# Altium integrated library Actel ACT 1.IntLib: 211 symbols (part 4 of 9)
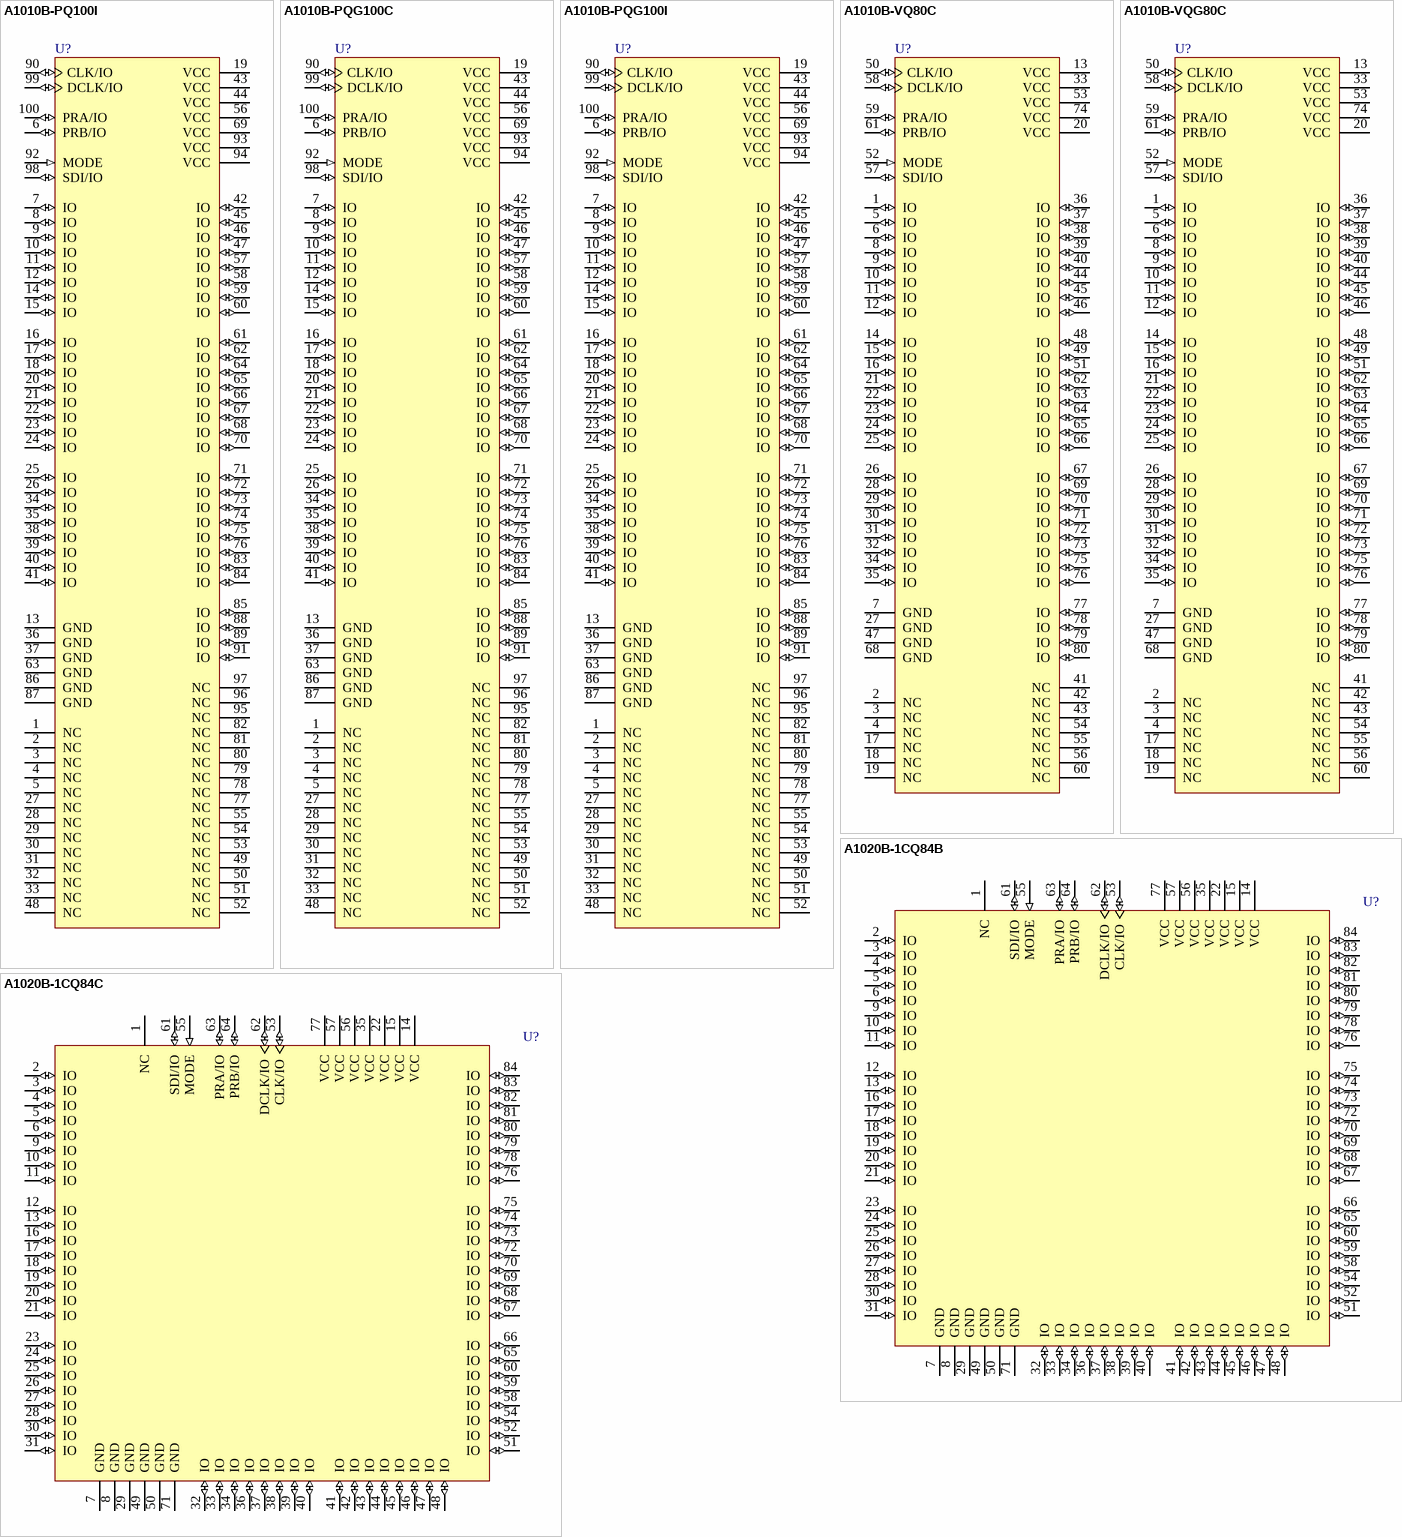
[diagram p35: symbols A1010B-PQ100I to A1020B-1CQ84C]

## A1010B-PQG100C
designator U?
ACT 1 Series 5V FPGA, 57 User I/Os, 100 pin PQFP, Standard Speed Grade, Commercial Grade, Pb-Free; Published: 11-Dec-2009; DatasheetVersion: Apr-1996; PackageVersion: ver11.2, Nov-2009; PackageReference: PQ100; Publisher: Altium Limited; PackageDescription: 100-Pin Plastic Quad Flat Pack Rectangular Package (PQ100); Code_JEDEC: MS-022-GC-1; Code_IPC: QFP65P1720X2320-100; ComponentLink1Description: ACT 1 DataSheet; ComponentLink1URL: http://www.actel.com/documents/ACT1_DS.pdf; ComponentLink2Description: Package Mechanical Drawings; ComponentLink2URL: http://www.actel.com/documents/PckgMechDrwngs.pdf; ComponentLink3Description: ACT Documents; ComponentLink3URL: http://www.actel.com/products/legacy/default.aspx#docs; ComponentLink4Description: Actel.com Home; ComponentLink4URL: http://www.actel.com/
footprint PQ100_N (QFP, 100-Leads, Body 20x14mm, Pitch 0.65mm, IPC Medium Density)
footprint PQ100_L (QFP, 100-Leads, Body 20x14mm, Pitch 0.65mm, IPC High Density)
footprint PQ100_M (QFP, 100-Leads, Body 20x14mm, Pitch 0.65mm, IPC Low Density)
pins: 1 NC, 2 NC, 3 NC, 4 NC, 5 NC, 6 PRB/IO (io), 7 IO (io), 8 IO (io), 9 IO (io), 10 IO (io), 11 IO (io), 12 IO (io), 13 GND (power), 14 IO (io), 15 IO (io), 16 IO (io), 17 IO (io), 18 IO (io), 19 VCC (power), 20 IO (io), 21 IO (io), 22 IO (io), 23 IO (io), 24 IO (io), 25 IO (io), 26 IO (io), 27 NC, 28 NC, 29 NC, 30 NC, 31 NC, 32 NC, 33 NC, 34 IO (io), 35 IO (io), 36 GND (power), 37 GND (power), 38 IO (io), 39 IO (io), 40 IO (io), 41 IO (io), 42 IO (io), 43 VCC (power), 44 VCC (power), 45 IO (io), 46 IO (io), 47 IO (io), 48 NC, 49 NC, 50 NC, 51 NC, 52 NC, 53 NC, 54 NC, 55 NC, 56 VCC (power), 57 IO (io), 58 IO (io), 59 IO (io), 60 IO (io), 61 IO (io), 62 IO (io), 63 GND (power), 64 IO (io), 65 IO (io), 66 IO (io), 67 IO (io), 68 IO (io), 69 VCC (power), 70 IO (io), 71 IO (io), 72 IO (io), 73 IO (io), 74 IO (io), 75 IO (io), 76 IO (io), 77 NC, 78 NC, 79 NC, 80 NC, 81 NC, 82 NC, 83 IO (io), 84 IO (io), 85 IO (io), 86 GND (power), 87 GND (power), 88 IO (io), 89 IO (io), 90 CLK/IO (io), 91 IO (io), 92 MODE (in), 93 VCC (power), 94 VCC (power), 95 NC, 96 NC, 97 NC, 98 SDI/IO (io), 99 DCLK/IO (io), 100 PRA/IO (io)

## A1010B-PQG100I
designator U?
ACT 1 Series 5V FPGA, 57 User I/Os, 100 pin PQFP, Standard Speed Grade, Industrial Grade, Pb-Free; Published: 11-Dec-2009; DatasheetVersion: Apr-1996; PackageVersion: ver11.2, Nov-2009; PackageReference: PQ100; Publisher: Altium Limited; PackageDescription: 100-Pin Plastic Quad Flat Pack Rectangular Package (PQ100); Code_JEDEC: MS-022-GC-1; Code_IPC: QFP65P1720X2320-100; ComponentLink1Description: ACT 1 DataSheet; ComponentLink1URL: http://www.actel.com/documents/ACT1_DS.pdf; ComponentLink2Description: Package Mechanical Drawings; ComponentLink2URL: http://www.actel.com/documents/PckgMechDrwngs.pdf; ComponentLink3Description: ACT Documents; ComponentLink3URL: http://www.actel.com/products/legacy/default.aspx#docs; ComponentLink4Description: Actel.com Home; ComponentLink4URL: http://www.actel.com/
footprint PQ100_N (QFP, 100-Leads, Body 20x14mm, Pitch 0.65mm, IPC Medium Density)
footprint PQ100_L (QFP, 100-Leads, Body 20x14mm, Pitch 0.65mm, IPC High Density)
footprint PQ100_M (QFP, 100-Leads, Body 20x14mm, Pitch 0.65mm, IPC Low Density)
pins: 1 NC, 2 NC, 3 NC, 4 NC, 5 NC, 6 PRB/IO (io), 7 IO (io), 8 IO (io), 9 IO (io), 10 IO (io), 11 IO (io), 12 IO (io), 13 GND (power), 14 IO (io), 15 IO (io), 16 IO (io), 17 IO (io), 18 IO (io), 19 VCC (power), 20 IO (io), 21 IO (io), 22 IO (io), 23 IO (io), 24 IO (io), 25 IO (io), 26 IO (io), 27 NC, 28 NC, 29 NC, 30 NC, 31 NC, 32 NC, 33 NC, 34 IO (io), 35 IO (io), 36 GND (power), 37 GND (power), 38 IO (io), 39 IO (io), 40 IO (io), 41 IO (io), 42 IO (io), 43 VCC (power), 44 VCC (power), 45 IO (io), 46 IO (io), 47 IO (io), 48 NC, 49 NC, 50 NC, 51 NC, 52 NC, 53 NC, 54 NC, 55 NC, 56 VCC (power), 57 IO (io), 58 IO (io), 59 IO (io), 60 IO (io), 61 IO (io), 62 IO (io), 63 GND (power), 64 IO (io), 65 IO (io), 66 IO (io), 67 IO (io), 68 IO (io), 69 VCC (power), 70 IO (io), 71 IO (io), 72 IO (io), 73 IO (io), 74 IO (io), 75 IO (io), 76 IO (io), 77 NC, 78 NC, 79 NC, 80 NC, 81 NC, 82 NC, 83 IO (io), 84 IO (io), 85 IO (io), 86 GND (power), 87 GND (power), 88 IO (io), 89 IO (io), 90 CLK/IO (io), 91 IO (io), 92 MODE (in), 93 VCC (power), 94 VCC (power), 95 NC, 96 NC, 97 NC, 98 SDI/IO (io), 99 DCLK/IO (io), 100 PRA/IO (io)

## A1010B-VQ80C
designator U?
ACT 1 Series 5V FPGA, 57 User I/Os, 80 pin Very Thin QFP, Standard Speed Grade, Commercial Grade; Published: 24-Nov-2000; LatestRevisionDate: 13-Apr-2006; LatestRevisionNote: IPC-7351 Footprint Added.; DatasheetVersion: Apr-1996; PackageVersion: ver11.2, Nov-2009; PackageReference: VQ80; Publisher: Altium Limited; PackageDescription: 80-Pin Plastic Quad Flat Pack (VQ80); Code_JEDEC: MS-026-AEC; ComponentLink1Description: ACT 1 DataSheet; ComponentLink1URL: http://www.actel.com/documents/ACT1_DS.pdf; ComponentLink2Description: Package Mechanical Drawings; ComponentLink2URL: http://www.actel.com/documents/PckgMechDrwngs.pdf; ComponentLink3Description: ACT Documents; ComponentLink3URL: http://www.actel.com/products/legacy/default.aspx#docs; ComponentLink4Description: Actel.com Home; ComponentLink4URL: http://www.actel.com/
footprint VQ80_N (Thin QFP, 80-Leads, Body 14 x 14mm, Pitch 0.65mm, IPC Medium Density)
footprint VQ80_L (Thin QFP, 80-Leads, Body 14 x 14mm, Pitch 0.65mm, IPC High Density)
footprint VQ80_M (Thin QFP, 80-Leads, Body 14 x 14mm, Pitch 0.65mm, IPC Low Density)
pins: 1 IO (io), 2 NC, 3 NC, 4 NC, 5 IO (io), 6 IO (io), 7 GND (power), 8 IO (io), 9 IO (io), 10 IO (io), 11 IO (io), 12 IO (io), 13 VCC (power), 14 IO (io), 15 IO (io), 16 IO (io), 17 NC, 18 NC, 19 NC, 20 VCC (power), 21 IO (io), 22 IO (io), 23 IO (io), 24 IO (io), 25 IO (io), 26 IO (io), 27 GND (power), 28 IO (io), 29 IO (io), 30 IO (io), 31 IO (io), 32 IO (io), 33 VCC (power), 34 IO (io), 35 IO (io), 36 IO (io), 37 IO (io), 38 IO (io), 39 IO (io), 40 IO (io), 41 NC, 42 NC, 43 NC, 44 IO (io), 45 IO (io), 46 IO (io), 47 GND (power), 48 IO (io), 49 IO (io), 50 CLK/IO (io), 51 IO (io), 52 MODE (in), 53 VCC (power), 54 NC, 55 NC, 56 NC, 57 SDI/IO (io), 58 DCLK/IO (io), 59 PRA/IO (io), 60 NC, 61 PRB/IO (io), 62 IO (io), 63 IO (io), 64 IO (io), 65 IO (io), 66 IO (io), 67 IO (io), 68 GND (power), 69 IO (io), 70 IO (io), 71 IO (io), 72 IO (io), 73 IO (io), 74 VCC (power), 75 IO (io), 76 IO (io), 77 IO (io), 78 IO (io), 79 IO (io), 80 IO (io)

## A1010B-VQG80C
designator U?
ACT 1 Series 5V FPGA, 57 User I/Os, 80 pin Very Thin QFP, Standard Speed Grade, Commercial Grade, Pb-Free; Published: 11-Dec-2009; DatasheetVersion: Apr-1996; PackageVersion: ver11.2, Nov-2009; PackageReference: VQ80; Publisher: Altium Limited; PackageDescription: 80-Pin Plastic Quad Flat Pack (VQ80); Code_JEDEC: MS-026-AEC; ComponentLink1Description: ACT 1 DataSheet; ComponentLink1URL: http://www.actel.com/documents/ACT1_DS.pdf; ComponentLink2Description: Package Mechanical Drawings; ComponentLink2URL: http://www.actel.com/documents/PckgMechDrwngs.pdf; ComponentLink3Description: ACT Documents; ComponentLink3URL: http://www.actel.com/products/legacy/default.aspx#docs; ComponentLink4Description: Actel.com Home; ComponentLink4URL: http://www.actel.com/
footprint VQ80_N (Thin QFP, 80-Leads, Body 14 x 14mm, Pitch 0.65mm, IPC Medium Density)
footprint VQ80_L (Thin QFP, 80-Leads, Body 14 x 14mm, Pitch 0.65mm, IPC High Density)
footprint VQ80_M (Thin QFP, 80-Leads, Body 14 x 14mm, Pitch 0.65mm, IPC Low Density)
pins: 1 IO (io), 2 NC, 3 NC, 4 NC, 5 IO (io), 6 IO (io), 7 GND (power), 8 IO (io), 9 IO (io), 10 IO (io), 11 IO (io), 12 IO (io), 13 VCC (power), 14 IO (io), 15 IO (io), 16 IO (io), 17 NC, 18 NC, 19 NC, 20 VCC (power), 21 IO (io), 22 IO (io), 23 IO (io), 24 IO (io), 25 IO (io), 26 IO (io), 27 GND (power), 28 IO (io), 29 IO (io), 30 IO (io), 31 IO (io), 32 IO (io), 33 VCC (power), 34 IO (io), 35 IO (io), 36 IO (io), 37 IO (io), 38 IO (io), 39 IO (io), 40 IO (io), 41 NC, 42 NC, 43 NC, 44 IO (io), 45 IO (io), 46 IO (io), 47 GND (power), 48 IO (io), 49 IO (io), 50 CLK/IO (io), 51 IO (io), 52 MODE (in), 53 VCC (power), 54 NC, 55 NC, 56 NC, 57 SDI/IO (io), 58 DCLK/IO (io), 59 PRA/IO (io), 60 NC, 61 PRB/IO (io), 62 IO (io), 63 IO (io), 64 IO (io), 65 IO (io), 66 IO (io), 67 IO (io), 68 GND (power), 69 IO (io), 70 IO (io), 71 IO (io), 72 IO (io), 73 IO (io), 74 VCC (power), 75 IO (io), 76 IO (io), 77 IO (io), 78 IO (io), 79 IO (io), 80 IO (io)

## A1020B-1CQ84B
designator U?
ACT 1 Series 5V FPGA, 69 User I/Os, 84 pin CQFP, Speed Grade 1, MIL-STD-883; Published: 24-Nov-2000; LatestRevisionDate: 13-Apr-2006; LatestRevisionNote: IPC-7351 Footprint Added.; DatasheetVersion: v3.0, Jan-2000; PackageVersion: ver11.2, Nov-2009; PackageReference: CQ84; Publisher: Altium Limited; PackageDescription: 84-Pin Ceramic Quad Flat Pack (CQFP); ComponentLink1Description: HiRel ACT 1 DataSheet; ComponentLink1URL: http://www.actel.com/documents/HiRel_DS.pdf; ComponentLink2Description: Package Mechanical Drawings; ComponentLink2URL: http://www.actel.com/documents/PckgMechDrwngs.pdf; ComponentLink3Description: ACT Documents; ComponentLink3URL: http://www.actel.com/products/legacy/default.aspx#docs; ComponentLink4Description: Actel.com Home; ComponentLink4URL: http://www.actel.com/
footprint CQ84_N (CQFP, 84-Leads, Body 16.5x16.5mm; Pitch 0.635mm, Gullwing Leadform, IPC Medium Density)
footprint CQ84_L (CQFP, 84-Leads, Body 16.5x16.5mm; Pitch 0.635mm, Gullwing Leadform, IPC High Density)
footprint CQ84_M (CQFP, 84-Leads, Body 16.5x16.5mm; Pitch 0.635mm, Gullwing Leadform, IPC Low Density)
pins: 1 NC, 2 IO (io), 3 IO (io), 4 IO (io), 5 IO (io), 6 IO (io), 7 GND (power), 8 GND (power), 9 IO (io), 10 IO (io), 11 IO (io), 12 IO (io), 13 IO (io), 14 VCC (power), 15 VCC (power), 16 IO (io), 17 IO (io), 18 IO (io), 19 IO (io), 20 IO (io), 21 IO (io), 22 VCC (power), 23 IO (io), 24 IO (io), 25 IO (io), 26 IO (io), 27 IO (io), 28 IO (io), 29 GND (power), 30 IO (io), 31 IO (io), 32 IO (io), 33 IO (io), 34 IO (io), 35 VCC (power), 36 IO (io), 37 IO (io), 38 IO (io), 39 IO (io), 40 IO (io), 41 IO (io), 42 IO (io), 43 IO (io), 44 IO (io), 45 IO (io), 46 IO (io), 47 IO (io), 48 IO (io), 49 GND (power), 50 GND (power), 51 IO (io), 52 IO (io), 53 CLK/IO (io), 54 IO (io), 55 MODE (in), 56 VCC (power), 57 VCC (power), 58 IO (io), 59 IO (io), 60 IO (io), 61 SDI/IO (io), 62 DCLK/IO (io), 63 PRA/IO (io), 64 PRB/IO (io), 65 IO (io), 66 IO (io), 67 IO (io), 68 IO (io), 69 IO (io), 70 IO (io), 71 GND (power), 72 IO (io), 73 IO (io), 74 IO (io), 75 IO (io), 76 IO (io), 77 VCC (power), 78 IO (io), 79 IO (io), 80 IO (io), 81 IO (io), 82 IO (io), 83 IO (io), 84 IO (io)

## A1020B-1CQ84C
designator U?
ACT 1 Series 5V FPGA, 69 User I/Os, 84 pin CQFP, Speed Grade 1, Commercial Grade; Published: 24-Nov-2000; LatestRevisionDate: 13-Apr-2006; LatestRevisionNote: IPC-7351 Footprint Added.; DatasheetVersion: v3.0, Jan-2000; PackageVersion: ver11.2, Nov-2009; PackageReference: CQ84; Publisher: Altium Limited; PackageDescription: 84-Pin Ceramic Quad Flat Pack (CQFP); ComponentLink1Description: HiRel ACT 1 DataSheet; ComponentLink1URL: http://www.actel.com/documents/HiRel_DS.pdf; ComponentLink2Description: Package Mechanical Drawings; ComponentLink2URL: http://www.actel.com/documents/PckgMechDrwngs.pdf; ComponentLink3Description: ACT Documents; ComponentLink3URL: http://www.actel.com/products/legacy/default.aspx#docs; ComponentLink4Description: Actel.com Home; ComponentLink4URL: http://www.actel.com/
footprint CQ84_N (CQFP, 84-Leads, Body 16.5x16.5mm; Pitch 0.635mm, Gullwing Leadform, IPC Medium Density)
footprint CQ84_L (CQFP, 84-Leads, Body 16.5x16.5mm; Pitch 0.635mm, Gullwing Leadform, IPC High Density)
footprint CQ84_M (CQFP, 84-Leads, Body 16.5x16.5mm; Pitch 0.635mm, Gullwing Leadform, IPC Low Density)
pins: 1 NC, 2 IO (io), 3 IO (io), 4 IO (io), 5 IO (io), 6 IO (io), 7 GND (power), 8 GND (power), 9 IO (io), 10 IO (io), 11 IO (io), 12 IO (io), 13 IO (io), 14 VCC (power), 15 VCC (power), 16 IO (io), 17 IO (io), 18 IO (io), 19 IO (io), 20 IO (io), 21 IO (io), 22 VCC (power), 23 IO (io), 24 IO (io), 25 IO (io), 26 IO (io), 27 IO (io), 28 IO (io), 29 GND (power), 30 IO (io), 31 IO (io), 32 IO (io), 33 IO (io), 34 IO (io), 35 VCC (power), 36 IO (io), 37 IO (io), 38 IO (io), 39 IO (io), 40 IO (io), 41 IO (io), 42 IO (io), 43 IO (io), 44 IO (io), 45 IO (io), 46 IO (io), 47 IO (io), 48 IO (io), 49 GND (power), 50 GND (power), 51 IO (io), 52 IO (io), 53 CLK/IO (io), 54 IO (io), 55 MODE (in), 56 VCC (power), 57 VCC (power), 58 IO (io), 59 IO (io), 60 IO (io), 61 SDI/IO (io), 62 DCLK/IO (io), 63 PRA/IO (io), 64 PRB/IO (io), 65 IO (io), 66 IO (io), 67 IO (io), 68 IO (io), 69 IO (io), 70 IO (io), 71 GND (power), 72 IO (io), 73 IO (io), 74 IO (io), 75 IO (io), 76 IO (io), 77 VCC (power), 78 IO (io), 79 IO (io), 80 IO (io), 81 IO (io), 82 IO (io), 83 IO (io), 84 IO (io)

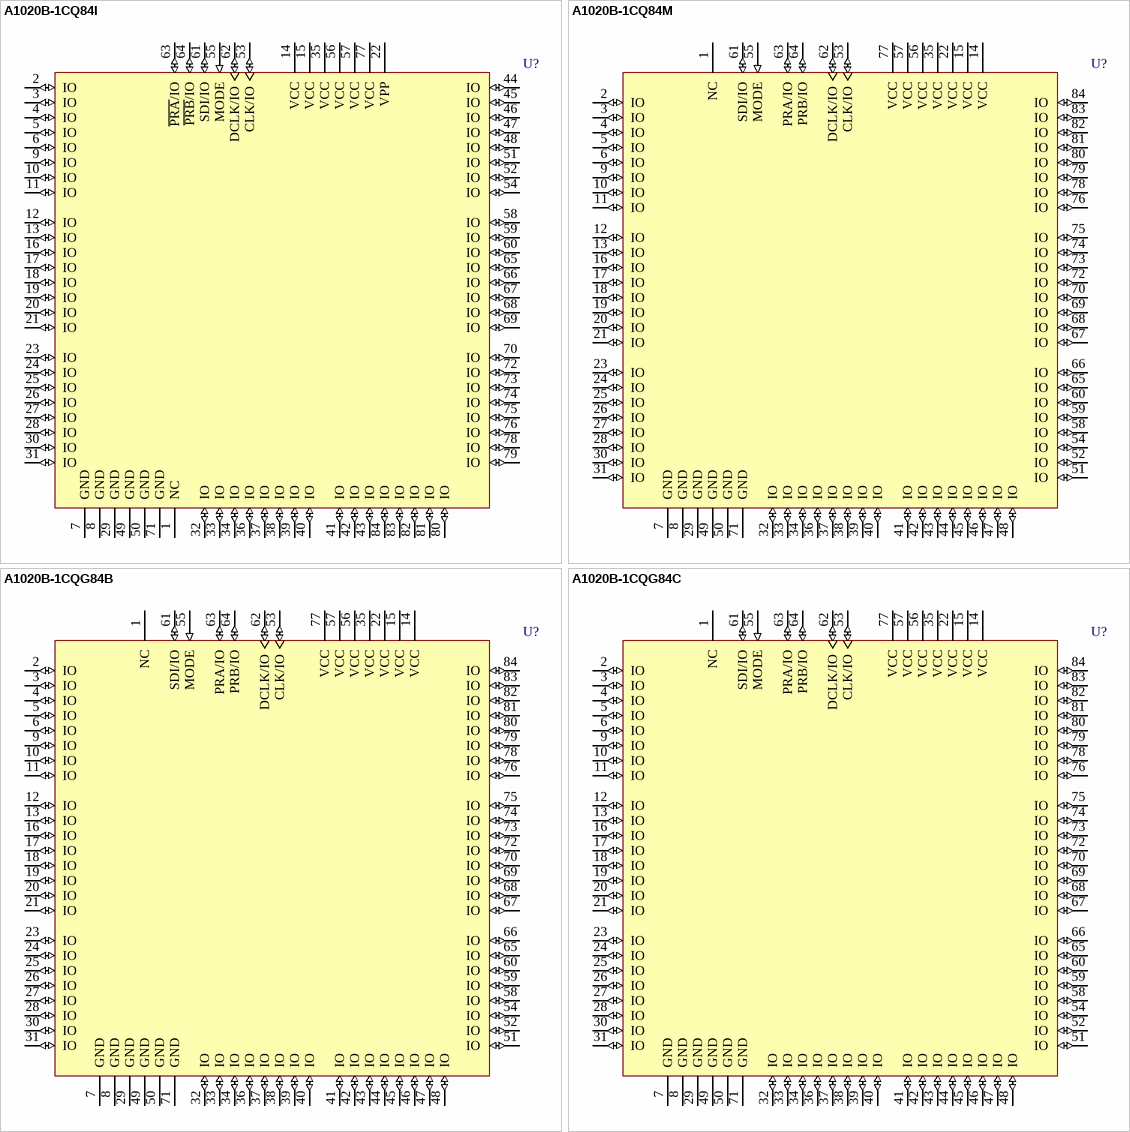
[diagram p12: symbols A1020B-1CQ84I to A1020B-1CQG84C]

## A1020B-1CQ84I
designator U?
ACT 1 Series 5V FPGA, 69 User I/Os, 84 pin CQFP, Speed Grade 1, Industrial Grade; ComponentAvailability: Unknown, check status with vendor.; Published: 24-Nov-2000; LatestRevisionDate: 13-Apr-2006; LatestRevisionNote: IPC-7351 Footprint Added.; DatasheetVersion: 1991; PackageVersion: ver11.2, Nov-2009; PackageReference: CQ84; Publisher: Altium Limited; PackageDescription: 84-Pin Ceramic Quad Flat Pack (CQFP); ComponentLink1Description: Package Mechanical Drawings; ComponentLink1URL: http://www.actel.com/documents/PckgMechDrwngs.pdf; ComponentLink2Description: ACT Documents; ComponentLink2URL: http://www.actel.com/products/legacy/default.aspx#docs; ComponentLink3Description: Actel.com Home; ComponentLink3URL: http://www.actel.com/
footprint CQ84_N (CQFP, 84-Leads, Body 16.5x16.5mm; Pitch 0.635mm, Gullwing Leadform, IPC Medium Density)
footprint CQ84_L (CQFP, 84-Leads, Body 16.5x16.5mm; Pitch 0.635mm, Gullwing Leadform, IPC High Density)
footprint CQ84_M (CQFP, 84-Leads, Body 16.5x16.5mm; Pitch 0.635mm, Gullwing Leadform, IPC Low Density)
pins: 1 NC, 2 IO (io), 3 IO (io), 4 IO (io), 5 IO (io), 6 IO (io), 7 GND (power), 8 GND (power), 9 IO (io), 10 IO (io), 11 IO (io), 12 IO (io), 13 IO (io), 14 VCC (power), 15 VCC (power), 16 IO (io), 17 IO (io), 18 IO (io), 19 IO (io), 20 IO (io), 21 IO (io), 22 VPP (power), 23 IO (io), 24 IO (io), 25 IO (io), 26 IO (io), 27 IO (io), 28 IO (io), 29 GND (power), 30 IO (io), 31 IO (io), 32 IO (io), 33 IO (io), 34 IO (io), 35 VCC (power), 36 IO (io), 37 IO (io), 38 IO (io), 39 IO (io), 40 IO (io), 41 IO (io), 42 IO (io), 43 IO (io), 44 IO (io), 45 IO (io), 46 IO (io), 47 IO (io), 48 IO (io), 49 GND (power), 50 GND (power), 51 IO (io), 52 IO (io), 53 CLK/IO (io), 54 IO (io), 55 MODE (in), 56 VCC (power), 57 VCC (power), 58 IO (io), 59 IO (io), 60 IO (io), 61 SDI/IO (io), 62 DCLK/IO (io), 63 ~{PRA}/IO (io), 64 ~{PRB}/IO (io), 65 IO (io), 66 IO (io), 67 IO (io), 68 IO (io), 69 IO (io), 70 IO (io), 71 GND (power), 72 IO (io), 73 IO (io), 74 IO (io), 75 IO (io), 76 IO (io), 77 VCC (power), 78 IO (io), 79 IO (io), 80 IO (io), 81 IO (io), 82 IO (io), 83 IO (io), 84 IO (io)

## A1020B-1CQ84M
designator U?
ACT 1 Series 5V FPGA, 69 User I/Os, 84 pin CQFP, Speed Grade 1, Military Grade; Published: 24-Nov-2000; LatestRevisionDate: 13-Apr-2006; LatestRevisionNote: IPC-7351 Footprint Added.; DatasheetVersion: v3.0, Jan-2000; PackageVersion: ver11.2, Nov-2009; PackageReference: CQ84; Publisher: Altium Limited; PackageDescription: 84-Pin Ceramic Quad Flat Pack (CQFP); ComponentLink1Description: HiRel ACT 1 DataSheet; ComponentLink1URL: http://www.actel.com/documents/HiRel_DS.pdf; ComponentLink2Description: Package Mechanical Drawings; ComponentLink2URL: http://www.actel.com/documents/PckgMechDrwngs.pdf; ComponentLink3Description: ACT Documents; ComponentLink3URL: http://www.actel.com/products/legacy/default.aspx#docs; ComponentLink4Description: Actel.com Home; ComponentLink4URL: http://www.actel.com/
footprint CQ84_N (CQFP, 84-Leads, Body 16.5x16.5mm; Pitch 0.635mm, Gullwing Leadform, IPC Medium Density)
footprint CQ84_L (CQFP, 84-Leads, Body 16.5x16.5mm; Pitch 0.635mm, Gullwing Leadform, IPC High Density)
footprint CQ84_M (CQFP, 84-Leads, Body 16.5x16.5mm; Pitch 0.635mm, Gullwing Leadform, IPC Low Density)
pins: 1 NC, 2 IO (io), 3 IO (io), 4 IO (io), 5 IO (io), 6 IO (io), 7 GND (power), 8 GND (power), 9 IO (io), 10 IO (io), 11 IO (io), 12 IO (io), 13 IO (io), 14 VCC (power), 15 VCC (power), 16 IO (io), 17 IO (io), 18 IO (io), 19 IO (io), 20 IO (io), 21 IO (io), 22 VCC (power), 23 IO (io), 24 IO (io), 25 IO (io), 26 IO (io), 27 IO (io), 28 IO (io), 29 GND (power), 30 IO (io), 31 IO (io), 32 IO (io), 33 IO (io), 34 IO (io), 35 VCC (power), 36 IO (io), 37 IO (io), 38 IO (io), 39 IO (io), 40 IO (io), 41 IO (io), 42 IO (io), 43 IO (io), 44 IO (io), 45 IO (io), 46 IO (io), 47 IO (io), 48 IO (io), 49 GND (power), 50 GND (power), 51 IO (io), 52 IO (io), 53 CLK/IO (io), 54 IO (io), 55 MODE (in), 56 VCC (power), 57 VCC (power), 58 IO (io), 59 IO (io), 60 IO (io), 61 SDI/IO (io), 62 DCLK/IO (io), 63 PRA/IO (io), 64 PRB/IO (io), 65 IO (io), 66 IO (io), 67 IO (io), 68 IO (io), 69 IO (io), 70 IO (io), 71 GND (power), 72 IO (io), 73 IO (io), 74 IO (io), 75 IO (io), 76 IO (io), 77 VCC (power), 78 IO (io), 79 IO (io), 80 IO (io), 81 IO (io), 82 IO (io), 83 IO (io), 84 IO (io)

## A1020B-1CQG84B
designator U?
ACT 1 Series 5V FPGA, 69 User I/Os, 84 pin CQFP, Speed Grade 1, MIL-STD-883, Pb-Free; Published: 11-Dec-2009; DatasheetVersion: v3.0, Jan-2000; PackageVersion: ver11.2, Nov-2009; PackageReference: CQ84; Publisher: Altium Limited; PackageDescription: 84-Pin Ceramic Quad Flat Pack (CQFP); ComponentLink1Description: HiRel ACT 1 DataSheet; ComponentLink1URL: http://www.actel.com/documents/HiRel_DS.pdf; ComponentLink2Description: Package Mechanical Drawings; ComponentLink2URL: http://www.actel.com/documents/PckgMechDrwngs.pdf; ComponentLink3Description: ACT Documents; ComponentLink3URL: http://www.actel.com/products/legacy/default.aspx#docs; ComponentLink4Description: Actel.com Home; ComponentLink4URL: http://www.actel.com/
footprint CQ84_N (CQFP, 84-Leads, Body 16.5x16.5mm; Pitch 0.635mm, Gullwing Leadform, IPC Medium Density)
footprint CQ84_L (CQFP, 84-Leads, Body 16.5x16.5mm; Pitch 0.635mm, Gullwing Leadform, IPC High Density)
footprint CQ84_M (CQFP, 84-Leads, Body 16.5x16.5mm; Pitch 0.635mm, Gullwing Leadform, IPC Low Density)
pins: 1 NC, 2 IO (io), 3 IO (io), 4 IO (io), 5 IO (io), 6 IO (io), 7 GND (power), 8 GND (power), 9 IO (io), 10 IO (io), 11 IO (io), 12 IO (io), 13 IO (io), 14 VCC (power), 15 VCC (power), 16 IO (io), 17 IO (io), 18 IO (io), 19 IO (io), 20 IO (io), 21 IO (io), 22 VCC (power), 23 IO (io), 24 IO (io), 25 IO (io), 26 IO (io), 27 IO (io), 28 IO (io), 29 GND (power), 30 IO (io), 31 IO (io), 32 IO (io), 33 IO (io), 34 IO (io), 35 VCC (power), 36 IO (io), 37 IO (io), 38 IO (io), 39 IO (io), 40 IO (io), 41 IO (io), 42 IO (io), 43 IO (io), 44 IO (io), 45 IO (io), 46 IO (io), 47 IO (io), 48 IO (io), 49 GND (power), 50 GND (power), 51 IO (io), 52 IO (io), 53 CLK/IO (io), 54 IO (io), 55 MODE (in), 56 VCC (power), 57 VCC (power), 58 IO (io), 59 IO (io), 60 IO (io), 61 SDI/IO (io), 62 DCLK/IO (io), 63 PRA/IO (io), 64 PRB/IO (io), 65 IO (io), 66 IO (io), 67 IO (io), 68 IO (io), 69 IO (io), 70 IO (io), 71 GND (power), 72 IO (io), 73 IO (io), 74 IO (io), 75 IO (io), 76 IO (io), 77 VCC (power), 78 IO (io), 79 IO (io), 80 IO (io), 81 IO (io), 82 IO (io), 83 IO (io), 84 IO (io)

## A1020B-1CQG84C
designator U?
ACT 1 Series 5V FPGA, 69 User I/Os, 84 pin CQFP, Speed Grade 1, Commercial Grade, Pb-Free; Published: 11-Dec-2009; DatasheetVersion: v3.0, Jan-2000; PackageVersion: ver11.2, Nov-2009; PackageReference: CQ84; Publisher: Altium Limited; PackageDescription: 84-Pin Ceramic Quad Flat Pack (CQFP); ComponentLink1Description: HiRel ACT 1 DataSheet; ComponentLink1URL: http://www.actel.com/documents/HiRel_DS.pdf; ComponentLink2Description: Package Mechanical Drawings; ComponentLink2URL: http://www.actel.com/documents/PckgMechDrwngs.pdf; ComponentLink3Description: ACT Documents; ComponentLink3URL: http://www.actel.com/products/legacy/default.aspx#docs; ComponentLink4Description: Actel.com Home; ComponentLink4URL: http://www.actel.com/
footprint CQ84_N (CQFP, 84-Leads, Body 16.5x16.5mm; Pitch 0.635mm, Gullwing Leadform, IPC Medium Density)
footprint CQ84_L (CQFP, 84-Leads, Body 16.5x16.5mm; Pitch 0.635mm, Gullwing Leadform, IPC High Density)
footprint CQ84_M (CQFP, 84-Leads, Body 16.5x16.5mm; Pitch 0.635mm, Gullwing Leadform, IPC Low Density)
pins: 1 NC, 2 IO (io), 3 IO (io), 4 IO (io), 5 IO (io), 6 IO (io), 7 GND (power), 8 GND (power), 9 IO (io), 10 IO (io), 11 IO (io), 12 IO (io), 13 IO (io), 14 VCC (power), 15 VCC (power), 16 IO (io), 17 IO (io), 18 IO (io), 19 IO (io), 20 IO (io), 21 IO (io), 22 VCC (power), 23 IO (io), 24 IO (io), 25 IO (io), 26 IO (io), 27 IO (io), 28 IO (io), 29 GND (power), 30 IO (io), 31 IO (io), 32 IO (io), 33 IO (io), 34 IO (io), 35 VCC (power), 36 IO (io), 37 IO (io), 38 IO (io), 39 IO (io), 40 IO (io), 41 IO (io), 42 IO (io), 43 IO (io), 44 IO (io), 45 IO (io), 46 IO (io), 47 IO (io), 48 IO (io), 49 GND (power), 50 GND (power), 51 IO (io), 52 IO (io), 53 CLK/IO (io), 54 IO (io), 55 MODE (in), 56 VCC (power), 57 VCC (power), 58 IO (io), 59 IO (io), 60 IO (io), 61 SDI/IO (io), 62 DCLK/IO (io), 63 PRA/IO (io), 64 PRB/IO (io), 65 IO (io), 66 IO (io), 67 IO (io), 68 IO (io), 69 IO (io), 70 IO (io), 71 GND (power), 72 IO (io), 73 IO (io), 74 IO (io), 75 IO (io), 76 IO (io), 77 VCC (power), 78 IO (io), 79 IO (io), 80 IO (io), 81 IO (io), 82 IO (io), 83 IO (io), 84 IO (io)

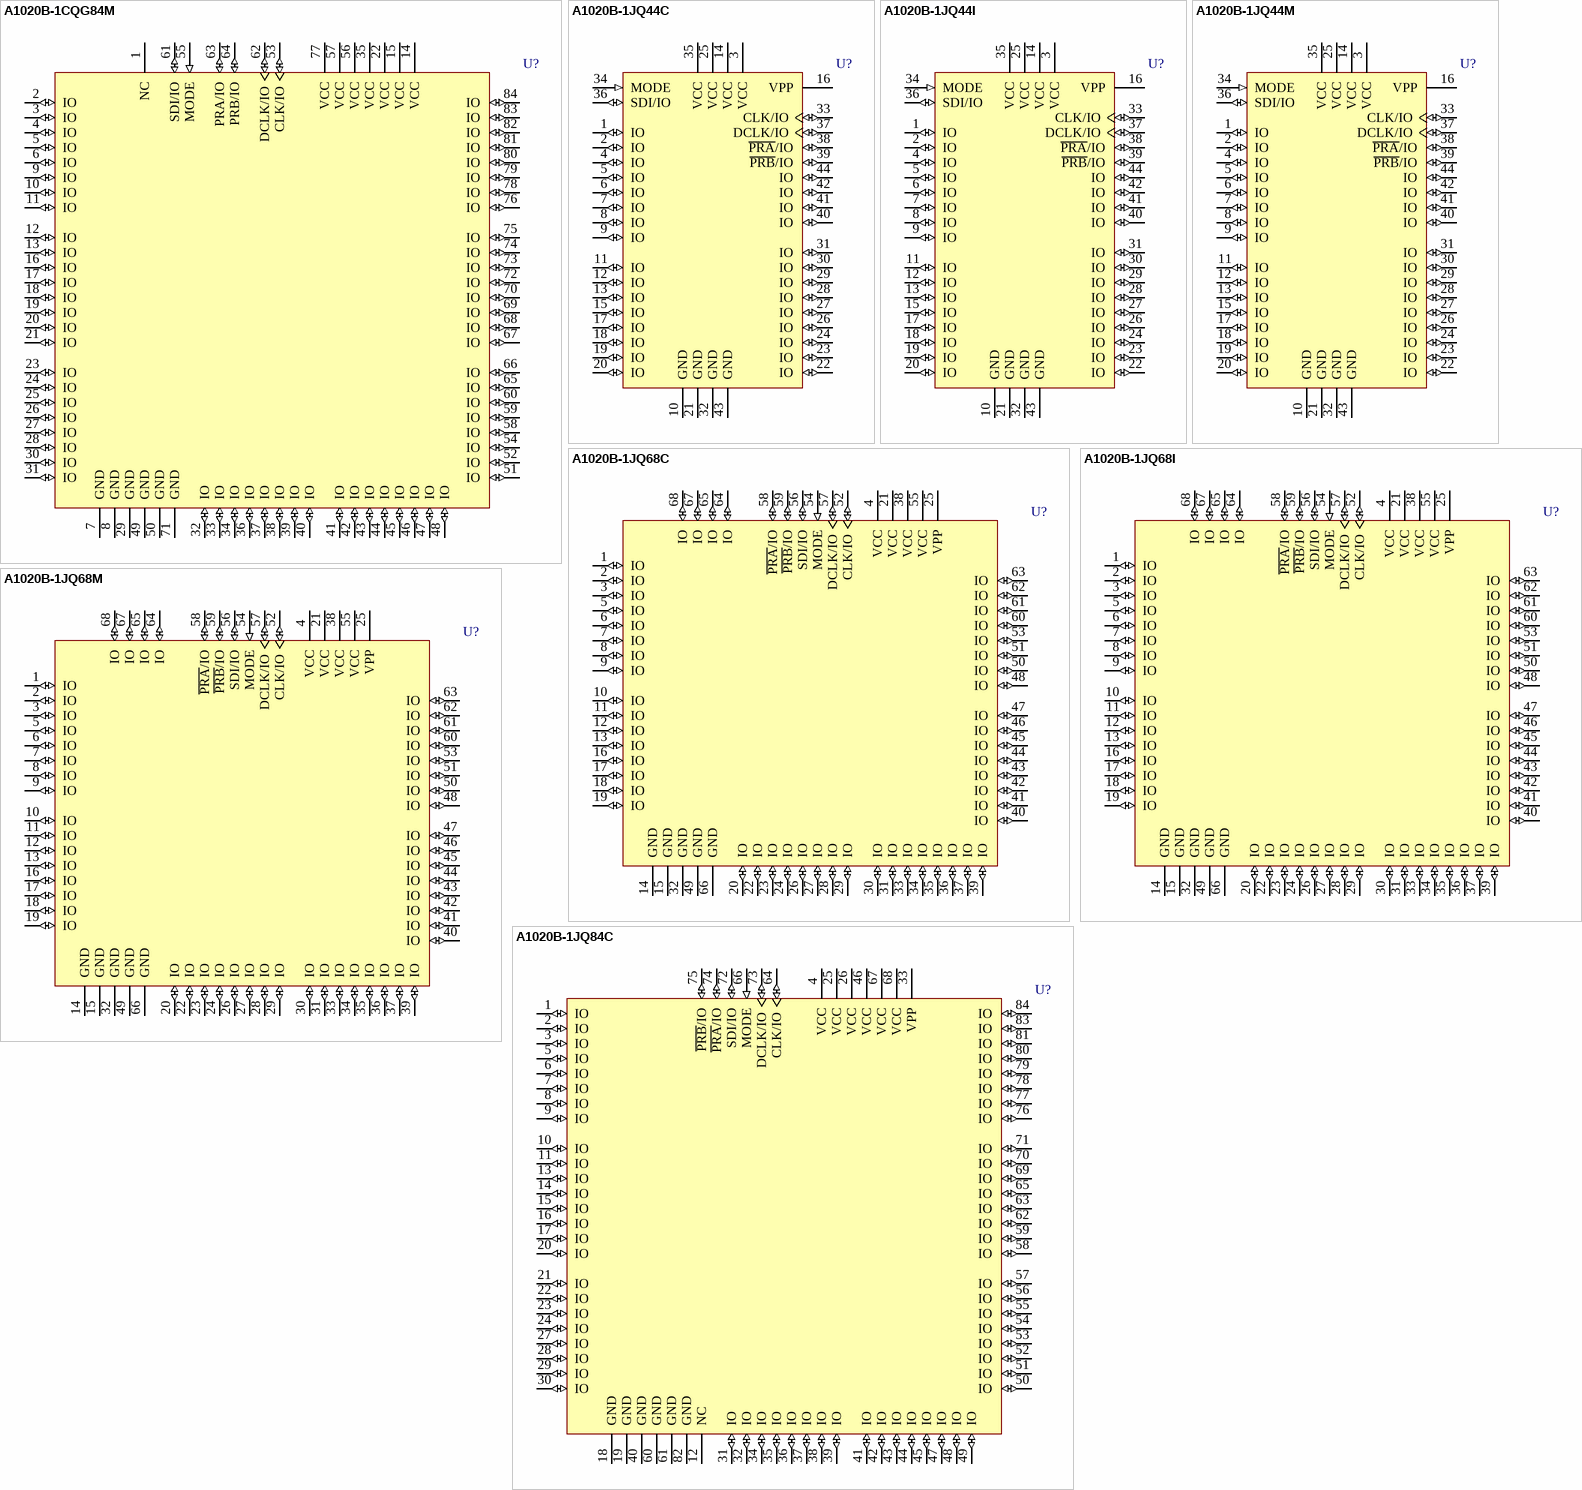
[diagram p13: symbols A1020B-1CQG84M to A1020B-1JQ84C]

## A1020B-1CQG84M
designator U?
ACT 1 Series 5V FPGA, 69 User I/Os, 84 pin CQFP, Speed Grade 1, Military Grade, Pb-Free; Published: 11-Dec-2009; DatasheetVersion: v3.0, Jan-2000; PackageVersion: ver11.2, Nov-2009; PackageReference: CQ84; Publisher: Altium Limited; PackageDescription: 84-Pin Ceramic Quad Flat Pack (CQFP); ComponentLink1Description: HiRel ACT 1 DataSheet; ComponentLink1URL: http://www.actel.com/documents/HiRel_DS.pdf; ComponentLink2Description: Package Mechanical Drawings; ComponentLink2URL: http://www.actel.com/documents/PckgMechDrwngs.pdf; ComponentLink3Description: ACT Documents; ComponentLink3URL: http://www.actel.com/products/legacy/default.aspx#docs; ComponentLink4Description: Actel.com Home; ComponentLink4URL: http://www.actel.com/
footprint CQ84_N (CQFP, 84-Leads, Body 16.5x16.5mm; Pitch 0.635mm, Gullwing Leadform, IPC Medium Density)
footprint CQ84_L (CQFP, 84-Leads, Body 16.5x16.5mm; Pitch 0.635mm, Gullwing Leadform, IPC High Density)
footprint CQ84_M (CQFP, 84-Leads, Body 16.5x16.5mm; Pitch 0.635mm, Gullwing Leadform, IPC Low Density)
pins: 1 NC, 2 IO (io), 3 IO (io), 4 IO (io), 5 IO (io), 6 IO (io), 7 GND (power), 8 GND (power), 9 IO (io), 10 IO (io), 11 IO (io), 12 IO (io), 13 IO (io), 14 VCC (power), 15 VCC (power), 16 IO (io), 17 IO (io), 18 IO (io), 19 IO (io), 20 IO (io), 21 IO (io), 22 VCC (power), 23 IO (io), 24 IO (io), 25 IO (io), 26 IO (io), 27 IO (io), 28 IO (io), 29 GND (power), 30 IO (io), 31 IO (io), 32 IO (io), 33 IO (io), 34 IO (io), 35 VCC (power), 36 IO (io), 37 IO (io), 38 IO (io), 39 IO (io), 40 IO (io), 41 IO (io), 42 IO (io), 43 IO (io), 44 IO (io), 45 IO (io), 46 IO (io), 47 IO (io), 48 IO (io), 49 GND (power), 50 GND (power), 51 IO (io), 52 IO (io), 53 CLK/IO (io), 54 IO (io), 55 MODE (in), 56 VCC (power), 57 VCC (power), 58 IO (io), 59 IO (io), 60 IO (io), 61 SDI/IO (io), 62 DCLK/IO (io), 63 PRA/IO (io), 64 PRB/IO (io), 65 IO (io), 66 IO (io), 67 IO (io), 68 IO (io), 69 IO (io), 70 IO (io), 71 GND (power), 72 IO (io), 73 IO (io), 74 IO (io), 75 IO (io), 76 IO (io), 77 VCC (power), 78 IO (io), 79 IO (io), 80 IO (io), 81 IO (io), 82 IO (io), 83 IO (io), 84 IO (io)

## A1020B-1JQ44C
designator U?
ACT 1 Series 5V FPGA, 34 User I/Os, 44 pin J-Leaded Cerquad Chip Carrier, Speed Grade 1, Commercial Grade; ComponentAvailability: Package JQ44 not available.; Published: 24-Nov-2000; LatestRevisionDate: 13-Apr-2006; LatestRevisionNote: IPC-7351 Footprint Added.; DatasheetVersion: 1991; PackageVersion: 1991; PackageReference: JQ44; Publisher: Altium Limited; PackageDescription: 44-Pin J-Leaded Cerquad Chip Carrier (JQ44); ComponentLink1Description: ACT Documents; ComponentLink1URL: http://www.actel.com/products/legacy/default.aspx#docs; ComponentLink2Description: Actel.com Home; ComponentLink2URL: http://www.actel.com/
footprint JQ44_N (Leaded Chip Carrier, 44-Leads, Body 16.5x16.5mm, Pitch 1.27mm, IPC Medium Density)
footprint JQ44_L (Leaded Chip Carrier, 44-Leads, Body 16.5x16.5mm, Pitch 1.27mm, IPC High Density)
footprint JQ44_M (Leaded Chip Carrier, 44-Leads, Body 16.5x16.5mm, Pitch 1.27mm, IPC Low Density)
pins: 1 IO (io), 2 IO (io), 3 VCC (power), 4 IO (io), 5 IO (io), 6 IO (io), 7 IO (io), 8 IO (io), 9 IO (io), 10 GND (power), 11 IO (io), 12 IO (io), 13 IO (io), 14 VCC (power), 15 IO (io), 16 VPP (power), 17 IO (io), 18 IO (io), 19 IO (io), 20 IO (io), 21 GND (power), 22 IO (io), 23 IO (io), 24 IO (io), 25 VCC (power), 26 IO (io), 27 IO (io), 28 IO (io), 29 IO (io), 30 IO (io), 31 IO (io), 32 GND (power), 33 CLK/IO (io), 34 MODE (in), 35 VCC (power), 36 SDI/IO (io), 37 DCLK/IO (io), 38 ~{PRA}/IO (io), 39 ~{PRB}/IO (io), 40 IO (io), 41 IO (io), 42 IO (io), 43 GND (power), 44 IO (io)

## A1020B-1JQ44I
designator U?
ACT 1 Series 5V FPGA, 34 User I/Os, 44 pin J-Leaded Cerquad Chip Carrier, Speed Grade 1, Industrial Grade; ComponentAvailability: Package JQ44 not available.; Published: 24-Nov-2000; LatestRevisionDate: 13-Apr-2006; LatestRevisionNote: IPC-7351 Footprint Added.; DatasheetVersion: 1991; PackageVersion: 1991; PackageReference: JQ44; Publisher: Altium Limited; PackageDescription: 44-Pin J-Leaded Cerquad Chip Carrier (JQ44); ComponentLink1Description: ACT Documents; ComponentLink1URL: http://www.actel.com/products/legacy/default.aspx#docs; ComponentLink2Description: Actel.com Home; ComponentLink2URL: http://www.actel.com/
footprint JQ44_N (Leaded Chip Carrier, 44-Leads, Body 16.5x16.5mm, Pitch 1.27mm, IPC Medium Density)
footprint JQ44_L (Leaded Chip Carrier, 44-Leads, Body 16.5x16.5mm, Pitch 1.27mm, IPC High Density)
footprint JQ44_M (Leaded Chip Carrier, 44-Leads, Body 16.5x16.5mm, Pitch 1.27mm, IPC Low Density)
pins: 1 IO (io), 2 IO (io), 3 VCC (power), 4 IO (io), 5 IO (io), 6 IO (io), 7 IO (io), 8 IO (io), 9 IO (io), 10 GND (power), 11 IO (io), 12 IO (io), 13 IO (io), 14 VCC (power), 15 IO (io), 16 VPP (power), 17 IO (io), 18 IO (io), 19 IO (io), 20 IO (io), 21 GND (power), 22 IO (io), 23 IO (io), 24 IO (io), 25 VCC (power), 26 IO (io), 27 IO (io), 28 IO (io), 29 IO (io), 30 IO (io), 31 IO (io), 32 GND (power), 33 CLK/IO (io), 34 MODE (in), 35 VCC (power), 36 SDI/IO (io), 37 DCLK/IO (io), 38 ~{PRA}/IO (io), 39 ~{PRB}/IO (io), 40 IO (io), 41 IO (io), 42 IO (io), 43 GND (power), 44 IO (io)

## A1020B-1JQ44M
designator U?
ACT 1 Series 5V FPGA, 34 User I/Os, 44 pin J-Leaded Cerquad Chip Carrier, Speed Grade 1, Military Grade; ComponentAvailability: Package JQ44 not available.; Published: 24-Nov-2000; LatestRevisionDate: 13-Apr-2006; LatestRevisionNote: IPC-7351 Footprint Added.; DatasheetVersion: 1991; PackageVersion: 1991; PackageReference: JQ44; Publisher: Altium Limited; PackageDescription: 44-Pin J-Leaded Cerquad Chip Carrier (JQ44); ComponentLink1Description: ACT Documents; ComponentLink1URL: http://www.actel.com/products/legacy/default.aspx#docs; ComponentLink2Description: Actel.com Home; ComponentLink2URL: http://www.actel.com/
footprint JQ44_N (Leaded Chip Carrier, 44-Leads, Body 16.5x16.5mm, Pitch 1.27mm, IPC Medium Density)
footprint JQ44_L (Leaded Chip Carrier, 44-Leads, Body 16.5x16.5mm, Pitch 1.27mm, IPC High Density)
footprint JQ44_M (Leaded Chip Carrier, 44-Leads, Body 16.5x16.5mm, Pitch 1.27mm, IPC Low Density)
pins: 1 IO (io), 2 IO (io), 3 VCC (power), 4 IO (io), 5 IO (io), 6 IO (io), 7 IO (io), 8 IO (io), 9 IO (io), 10 GND (power), 11 IO (io), 12 IO (io), 13 IO (io), 14 VCC (power), 15 IO (io), 16 VPP (power), 17 IO (io), 18 IO (io), 19 IO (io), 20 IO (io), 21 GND (power), 22 IO (io), 23 IO (io), 24 IO (io), 25 VCC (power), 26 IO (io), 27 IO (io), 28 IO (io), 29 IO (io), 30 IO (io), 31 IO (io), 32 GND (power), 33 CLK/IO (io), 34 MODE (in), 35 VCC (power), 36 SDI/IO (io), 37 DCLK/IO (io), 38 ~{PRA}/IO (io), 39 ~{PRB}/IO (io), 40 IO (io), 41 IO (io), 42 IO (io), 43 GND (power), 44 IO (io)

## A1020B-1JQ68C
designator U?
ACT 1 Series 5V FPGA, 57 User I/Os, 68 pin J-Leaded Cerquad Chip Carrier, Speed Grade 1, Commercial Grade; ComponentAvailability: Package JQ68 not available.; Published: 24-Nov-2000; LatestRevisionDate: 13-Apr-2006; LatestRevisionNote: IPC-7351 Footprint Added.; DatasheetVersion: 1991; PackageVersion: 1991; PackageReference: JQ68; Publisher: Altium Limited; PackageDescription: 68-Pin J-Leaded Cerquad Chip Carrier (JQ68); ComponentLink1Description: ACT Documents; ComponentLink1URL: http://www.actel.com/products/legacy/default.aspx#docs; ComponentLink2Description: Actel.com Home; ComponentLink2URL: http://www.actel.com/
footprint JQ68_N (Leaded Chip Carrier, 68-Leads, Body 24x24mm, Pitch 1.27mm, IPC Medium Density)
footprint JQ68_L (Leaded Chip Carrier, 68-Leads, Body 24x24mm, Pitch 1.27mm, IPC High Density)
footprint JQ68_M (Leaded Chip Carrier, 68-Leads, Body 24x24mm, Pitch 1.27mm, IPC Low Density)
pins: 1 IO (io), 2 IO (io), 3 IO (io), 4 VCC (power), 5 IO (io), 6 IO (io), 7 IO (io), 8 IO (io), 9 IO (io), 10 IO (io), 11 IO (io), 12 IO (io), 13 IO (io), 14 GND (power), 15 GND (power), 16 IO (io), 17 IO (io), 18 IO (io), 19 IO (io), 20 IO (io), 21 VCC (power), 22 IO (io), 23 IO (io), 24 IO (io), 25 VPP (power), 26 IO (io), 27 IO (io), 28 IO (io), 29 IO (io), 30 IO (io), 31 IO (io), 32 GND (power), 33 IO (io), 34 IO (io), 35 IO (io), 36 IO (io), 37 IO (io), 38 VCC (power), 39 IO (io), 40 IO (io), 41 IO (io), 42 IO (io), 43 IO (io), 44 IO (io), 45 IO (io), 46 IO (io), 47 IO (io), 48 IO (io), 49 GND (power), 50 IO (io), 51 IO (io), 52 CLK/IO (io), 53 IO (io), 54 MODE (in), 55 VCC (power), 56 SDI/IO (io), 57 DCLK/IO (io), 58 ~{PRA}/IO (io), 59 ~{PRB}/IO (io), 60 IO (io), 61 IO (io), 62 IO (io), 63 IO (io), 64 IO (io), 65 IO (io), 66 GND (power), 67 IO (io), 68 IO (io)

## A1020B-1JQ68I
designator U?
ACT 1 Series 5V FPGA, 57 User I/Os, 68 pin J-Leaded Cerquad Chip Carrier, Speed Grade 1, Industrial Grade; ComponentAvailability: Package JQ68 not available.; Published: 24-Nov-2000; LatestRevisionDate: 13-Apr-2006; LatestRevisionNote: IPC-7351 Footprint Added.; DatasheetVersion: 1991; PackageVersion: 1991; PackageReference: JQ68; Publisher: Altium Limited; PackageDescription: 68-Pin J-Leaded Cerquad Chip Carrier (JQ68); ComponentLink1Description: ACT Documents; ComponentLink1URL: http://www.actel.com/products/legacy/default.aspx#docs; ComponentLink2Description: Actel.com Home; ComponentLink2URL: http://www.actel.com/
footprint JQ68_N (Leaded Chip Carrier, 68-Leads, Body 24x24mm, Pitch 1.27mm, IPC Medium Density)
footprint JQ68_L (Leaded Chip Carrier, 68-Leads, Body 24x24mm, Pitch 1.27mm, IPC High Density)
footprint JQ68_M (Leaded Chip Carrier, 68-Leads, Body 24x24mm, Pitch 1.27mm, IPC Low Density)
pins: 1 IO (io), 2 IO (io), 3 IO (io), 4 VCC (power), 5 IO (io), 6 IO (io), 7 IO (io), 8 IO (io), 9 IO (io), 10 IO (io), 11 IO (io), 12 IO (io), 13 IO (io), 14 GND (power), 15 GND (power), 16 IO (io), 17 IO (io), 18 IO (io), 19 IO (io), 20 IO (io), 21 VCC (power), 22 IO (io), 23 IO (io), 24 IO (io), 25 VPP (power), 26 IO (io), 27 IO (io), 28 IO (io), 29 IO (io), 30 IO (io), 31 IO (io), 32 GND (power), 33 IO (io), 34 IO (io), 35 IO (io), 36 IO (io), 37 IO (io), 38 VCC (power), 39 IO (io), 40 IO (io), 41 IO (io), 42 IO (io), 43 IO (io), 44 IO (io), 45 IO (io), 46 IO (io), 47 IO (io), 48 IO (io), 49 GND (power), 50 IO (io), 51 IO (io), 52 CLK/IO (io), 53 IO (io), 54 MODE (in), 55 VCC (power), 56 SDI/IO (io), 57 DCLK/IO (io), 58 ~{PRA}/IO (io), 59 ~{PRB}/IO (io), 60 IO (io), 61 IO (io), 62 IO (io), 63 IO (io), 64 IO (io), 65 IO (io), 66 GND (power), 67 IO (io), 68 IO (io)

## A1020B-1JQ68M
designator U?
ACT 1 Series 5V FPGA, 57 User I/Os, 68 pin J-Leaded Cerquad Chip Carrier, Speed Grade 1, Military Grade; ComponentAvailability: Package JQ68 not available.; Published: 24-Nov-2000; LatestRevisionDate: 13-Apr-2006; LatestRevisionNote: IPC-7351 Footprint Added.; DatasheetVersion: 1991; PackageVersion: 1991; PackageReference: JQ68; Publisher: Altium Limited; PackageDescription: 68-Pin J-Leaded Cerquad Chip Carrier (JQ68); ComponentLink1Description: ACT Documents; ComponentLink1URL: http://www.actel.com/products/legacy/default.aspx#docs; ComponentLink2Description: Actel.com Home; ComponentLink2URL: http://www.actel.com/
footprint JQ68_N (Leaded Chip Carrier, 68-Leads, Body 24x24mm, Pitch 1.27mm, IPC Medium Density)
footprint JQ68_L (Leaded Chip Carrier, 68-Leads, Body 24x24mm, Pitch 1.27mm, IPC High Density)
footprint JQ68_M (Leaded Chip Carrier, 68-Leads, Body 24x24mm, Pitch 1.27mm, IPC Low Density)
pins: 1 IO (io), 2 IO (io), 3 IO (io), 4 VCC (power), 5 IO (io), 6 IO (io), 7 IO (io), 8 IO (io), 9 IO (io), 10 IO (io), 11 IO (io), 12 IO (io), 13 IO (io), 14 GND (power), 15 GND (power), 16 IO (io), 17 IO (io), 18 IO (io), 19 IO (io), 20 IO (io), 21 VCC (power), 22 IO (io), 23 IO (io), 24 IO (io), 25 VPP (power), 26 IO (io), 27 IO (io), 28 IO (io), 29 IO (io), 30 IO (io), 31 IO (io), 32 GND (power), 33 IO (io), 34 IO (io), 35 IO (io), 36 IO (io), 37 IO (io), 38 VCC (power), 39 IO (io), 40 IO (io), 41 IO (io), 42 IO (io), 43 IO (io), 44 IO (io), 45 IO (io), 46 IO (io), 47 IO (io), 48 IO (io), 49 GND (power), 50 IO (io), 51 IO (io), 52 CLK/IO (io), 53 IO (io), 54 MODE (in), 55 VCC (power), 56 SDI/IO (io), 57 DCLK/IO (io), 58 ~{PRA}/IO (io), 59 ~{PRB}/IO (io), 60 IO (io), 61 IO (io), 62 IO (io), 63 IO (io), 64 IO (io), 65 IO (io), 66 GND (power), 67 IO (io), 68 IO (io)

## A1020B-1JQ84C
designator U?
ACT 1 Series 5V FPGA, 69 User I/Os, 84 pin J-Leaded Cerquad Chip Carrier, Speed Grade 1, Commercial Grade; ComponentAvailability: Package JQ84 not available.; Published: 24-Nov-2000; LatestRevisionDate: 13-Apr-2006; LatestRevisionNote: IPC-7351 Footprint Added.; DatasheetVersion: 1991; PackageVersion: 1991; PackageReference: JQ84; Publisher: Altium Limited; PackageDescription: 84-Pin J-Leaded Cerquad Chip Carrier (JQ84); ComponentLink1Description: ACT Documents; ComponentLink1URL: http://www.actel.com/products/legacy/default.aspx#docs; ComponentLink2Description: Actel.com Home; ComponentLink2URL: http://www.actel.com/
footprint JQ84_N (Leaded Chip Carrier, 84-Leads, Body 29.2x29.2mm, Pitch 1.27mm, IPC Medium Density)
footprint JQ84_L (Leaded Chip Carrier, 84-Leads, Body 29.2x29.2mm, Pitch 1.27mm, IPC High Density)
footprint JQ84_M (Leaded Chip Carrier, 84-Leads, Body 29.2x29.2mm, Pitch 1.27mm, IPC Low Density)
pins: 1 IO (io), 2 IO (io), 3 IO (io), 4 VCC (power), 5 IO (io), 6 IO (io), 7 IO (io), 8 IO (io), 9 IO (io), 10 IO (io), 11 IO (io), 12 NC, 13 IO (io), 14 IO (io), 15 IO (io), 16 IO (io), 17 IO (io), 18 GND (power), 19 GND (power), 20 IO (io), 21 IO (io), 22 IO (io), 23 IO (io), 24 IO (io), 25 VCC (power), 26 VCC (power), 27 IO (io), 28 IO (io), 29 IO (io), 30 IO (io), 31 IO (io), 32 IO (io), 33 VPP (power), 34 IO (io), 35 IO (io), 36 IO (io), 37 IO (io), 38 IO (io), 39 IO (io), 40 GND (power), 41 IO (io), 42 IO (io), 43 IO (io), 44 IO (io), 45 IO (io), 46 VCC (power), 47 IO (io), 48 IO (io), 49 IO (io), 50 IO (io), 51 IO (io), 52 IO (io), 53 IO (io), 54 IO (io), 55 IO (io), 56 IO (io), 57 IO (io), 58 IO (io), 59 IO (io), 60 GND (power), 61 GND (power), 62 IO (io), 63 IO (io), 64 CLK/IO (io), 65 IO (io), 66 MODE (in), 67 VCC (power), 68 VCC (power), 69 IO (io), 70 IO (io), 71 IO (io), 72 SDI/IO (io), 73 DCLK/IO (io), 74 ~{PRA}/IO (io), 75 ~{PRB}/IO (io), 76 IO (io), 77 IO (io), 78 IO (io), 79 IO (io), 80 IO (io), 81 IO (io), 82 GND (power), 83 IO (io), 84 IO (io)

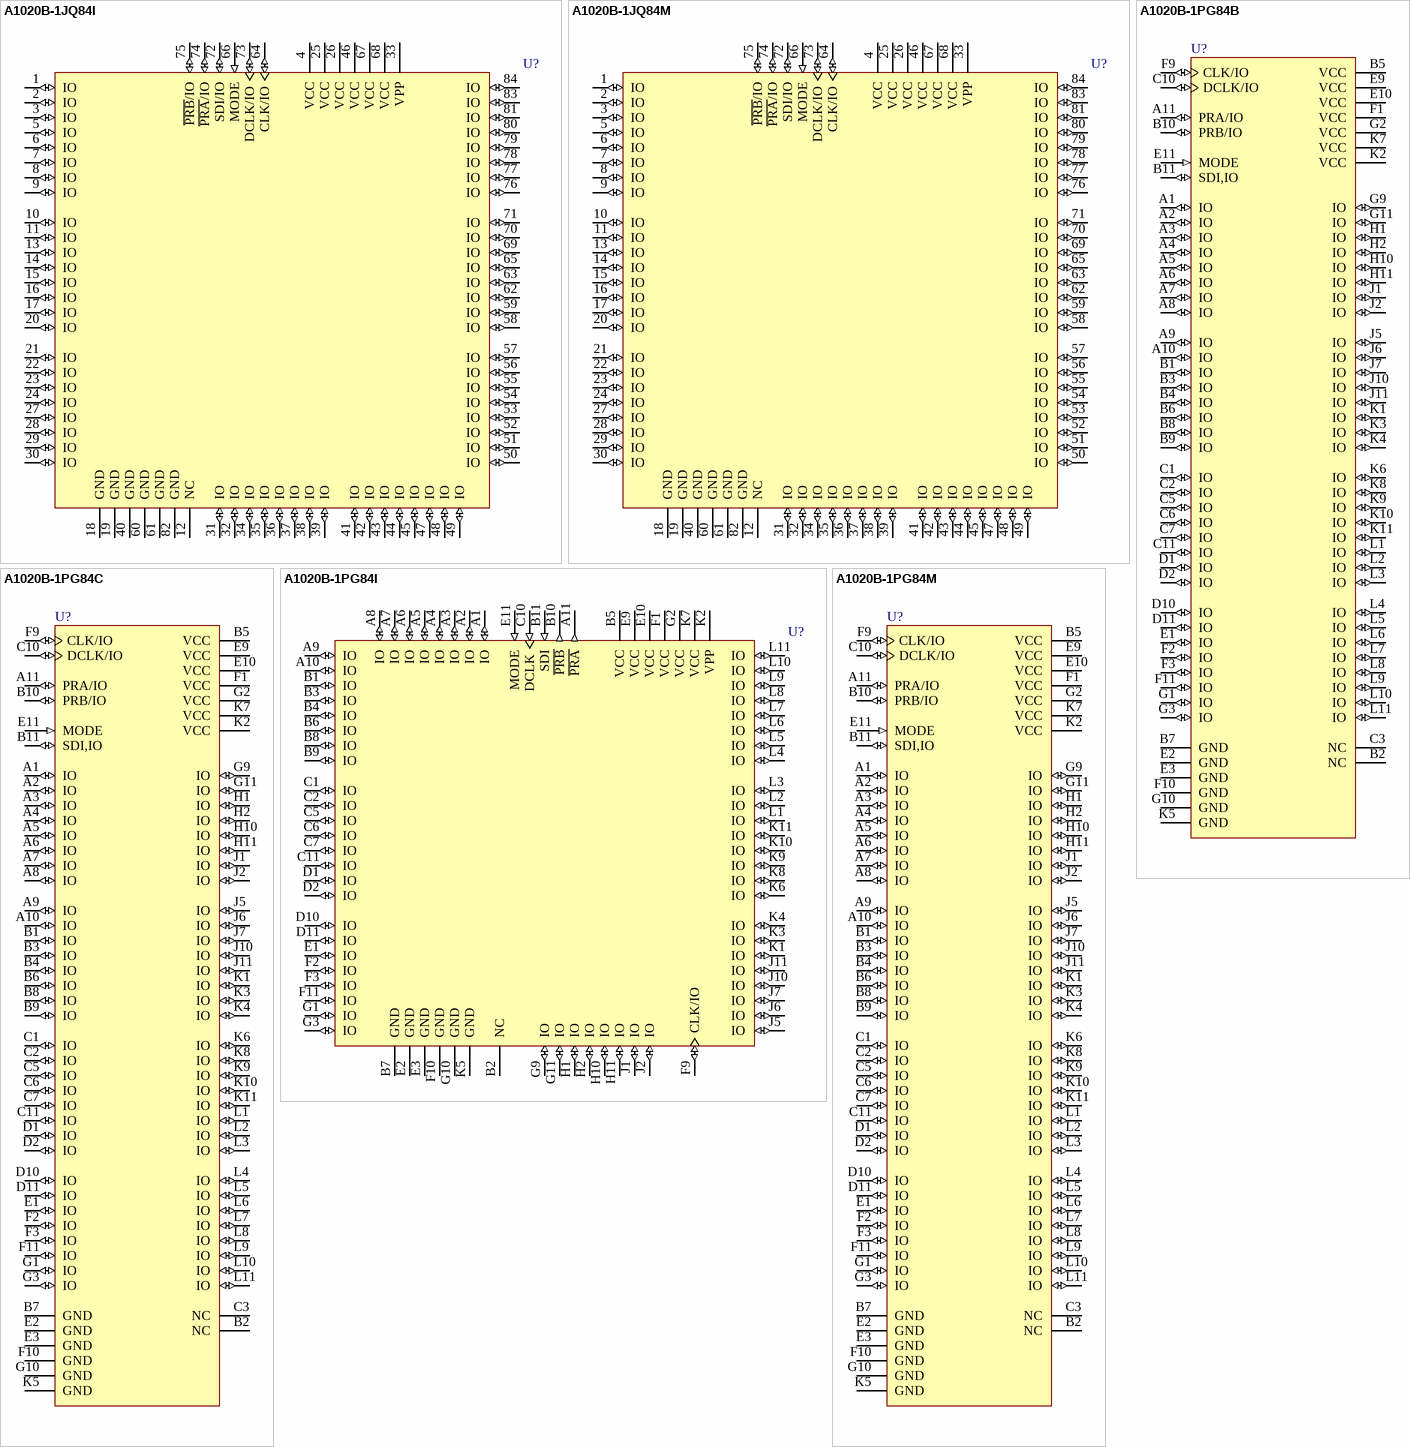
[diagram p14: symbols A1020B-1JQ84I to A1020B-1PG84M]

## A1020B-1JQ84I
designator U?
ACT 1 Series 5V FPGA, 69 User I/Os, 84 pin J-Leaded Cerquad Chip Carrier, Speed Grade 1, Industrial Grade; ComponentAvailability: Package JQ84 not available.; Published: 24-Nov-2000; LatestRevisionDate: 13-Apr-2006; LatestRevisionNote: IPC-7351 Footprint Added.; DatasheetVersion: 1991; PackageVersion: 1991; PackageReference: JQ84; Publisher: Altium Limited; PackageDescription: 84-Pin J-Leaded Cerquad Chip Carrier (JQ84); ComponentLink1Description: ACT Documents; ComponentLink1URL: http://www.actel.com/products/legacy/default.aspx#docs; ComponentLink2Description: Actel.com Home; ComponentLink2URL: http://www.actel.com/
footprint JQ84_N (Leaded Chip Carrier, 84-Leads, Body 29.2x29.2mm, Pitch 1.27mm, IPC Medium Density)
footprint JQ84_L (Leaded Chip Carrier, 84-Leads, Body 29.2x29.2mm, Pitch 1.27mm, IPC High Density)
footprint JQ84_M (Leaded Chip Carrier, 84-Leads, Body 29.2x29.2mm, Pitch 1.27mm, IPC Low Density)
pins: 1 IO (io), 2 IO (io), 3 IO (io), 4 VCC (power), 5 IO (io), 6 IO (io), 7 IO (io), 8 IO (io), 9 IO (io), 10 IO (io), 11 IO (io), 12 NC, 13 IO (io), 14 IO (io), 15 IO (io), 16 IO (io), 17 IO (io), 18 GND (power), 19 GND (power), 20 IO (io), 21 IO (io), 22 IO (io), 23 IO (io), 24 IO (io), 25 VCC (power), 26 VCC (power), 27 IO (io), 28 IO (io), 29 IO (io), 30 IO (io), 31 IO (io), 32 IO (io), 33 VPP (power), 34 IO (io), 35 IO (io), 36 IO (io), 37 IO (io), 38 IO (io), 39 IO (io), 40 GND (power), 41 IO (io), 42 IO (io), 43 IO (io), 44 IO (io), 45 IO (io), 46 VCC (power), 47 IO (io), 48 IO (io), 49 IO (io), 50 IO (io), 51 IO (io), 52 IO (io), 53 IO (io), 54 IO (io), 55 IO (io), 56 IO (io), 57 IO (io), 58 IO (io), 59 IO (io), 60 GND (power), 61 GND (power), 62 IO (io), 63 IO (io), 64 CLK/IO (io), 65 IO (io), 66 MODE (in), 67 VCC (power), 68 VCC (power), 69 IO (io), 70 IO (io), 71 IO (io), 72 SDI/IO (io), 73 DCLK/IO (io), 74 ~{PRA}/IO (io), 75 ~{PRB}/IO (io), 76 IO (io), 77 IO (io), 78 IO (io), 79 IO (io), 80 IO (io), 81 IO (io), 82 GND (power), 83 IO (io), 84 IO (io)

## A1020B-1JQ84M
designator U?
ACT 1 Series 5V FPGA, 69 User I/Os, 84 pin J-Leaded Cerquad Chip Carrier, Speed Grade 1, Military Grade; ComponentAvailability: Package JQ84 not available.; Published: 24-Nov-2000; LatestRevisionDate: 13-Apr-2006; LatestRevisionNote: IPC-7351 Footprint Added.; DatasheetVersion: 1991; PackageVersion: 1991; PackageReference: JQ84; Publisher: Altium Limited; PackageDescription: 84-Pin J-Leaded Cerquad Chip Carrier (JQ84); ComponentLink1Description: ACT Documents; ComponentLink1URL: http://www.actel.com/products/legacy/default.aspx#docs; ComponentLink2Description: Actel.com Home; ComponentLink2URL: http://www.actel.com/
footprint JQ84_N (Leaded Chip Carrier, 84-Leads, Body 29.2x29.2mm, Pitch 1.27mm, IPC Medium Density)
footprint JQ84_L (Leaded Chip Carrier, 84-Leads, Body 29.2x29.2mm, Pitch 1.27mm, IPC High Density)
footprint JQ84_M (Leaded Chip Carrier, 84-Leads, Body 29.2x29.2mm, Pitch 1.27mm, IPC Low Density)
pins: 1 IO (io), 2 IO (io), 3 IO (io), 4 VCC (power), 5 IO (io), 6 IO (io), 7 IO (io), 8 IO (io), 9 IO (io), 10 IO (io), 11 IO (io), 12 NC, 13 IO (io), 14 IO (io), 15 IO (io), 16 IO (io), 17 IO (io), 18 GND (power), 19 GND (power), 20 IO (io), 21 IO (io), 22 IO (io), 23 IO (io), 24 IO (io), 25 VCC (power), 26 VCC (power), 27 IO (io), 28 IO (io), 29 IO (io), 30 IO (io), 31 IO (io), 32 IO (io), 33 VPP (power), 34 IO (io), 35 IO (io), 36 IO (io), 37 IO (io), 38 IO (io), 39 IO (io), 40 GND (power), 41 IO (io), 42 IO (io), 43 IO (io), 44 IO (io), 45 IO (io), 46 VCC (power), 47 IO (io), 48 IO (io), 49 IO (io), 50 IO (io), 51 IO (io), 52 IO (io), 53 IO (io), 54 IO (io), 55 IO (io), 56 IO (io), 57 IO (io), 58 IO (io), 59 IO (io), 60 GND (power), 61 GND (power), 62 IO (io), 63 IO (io), 64 CLK/IO (io), 65 IO (io), 66 MODE (in), 67 VCC (power), 68 VCC (power), 69 IO (io), 70 IO (io), 71 IO (io), 72 SDI/IO (io), 73 DCLK/IO (io), 74 ~{PRA}/IO (io), 75 ~{PRB}/IO (io), 76 IO (io), 77 IO (io), 78 IO (io), 79 IO (io), 80 IO (io), 81 IO (io), 82 GND (power), 83 IO (io), 84 IO (io)

## A1020B-1PG84B
designator U?
ACT 1 Series 5V FPGA, 69 User I/Os, 84 pin CPGA, Speed Grade 1, MIL-STD-883; Published: 24-Nov-2000; LatestRevisionDate: 04-Mar-2005; LatestRevisionNote: Stylized 3D Model Added.; DatasheetVersion: v3.0, Jan-2000; PackageVersion: ver11.2, Nov-2009; PackageReference: PG84; Publisher: Altium Limited; PackageDescription: 84-Pin Ceramic Pin Grid Array (PG84); ComponentLink1Description: HiRel ACT 1 DataSheet; ComponentLink1URL: http://www.actel.com/documents/HiRel_DS.pdf; ComponentLink2Description: Package Mechanical Drawings; ComponentLink2URL: http://www.actel.com/documents/PckgMechDrwngs.pdf; ComponentLink3Description: ACT Documents; ComponentLink3URL: http://www.actel.com/products/legacy/default.aspx#docs; ComponentLink4Description: Actel.com Home; ComponentLink4URL: http://www.actel.com/
footprint PG84 (PGA, 85-Leads, Body 28x28mm, Pitch 2.54mm)
pins: A1 IO (io), A2 IO (io), A3 IO (io), A4 IO (io), A5 IO (io), A6 IO (io), A7 IO (io), A8 IO (io), A9 IO (io), A10 IO (io), A11 PRA/IO (io), B1 IO (io), B2 NC, B3 IO (io), B4 IO (io), B5 VCC (power), B6 IO (io), B7 GND (power), B8 IO (io), B9 IO (io), B10 PRB/IO (io), B11 SDI,IO (io), C1 IO (io), C2 IO (io), C3 NC, C5 IO (io), C6 IO (io), C7 IO (io), C10 DCLK/IO (io), C11 IO (io), D1 IO (io), D2 IO (io), D10 IO (io), D11 IO (io), E1 IO (io), E2 GND (power), E3 GND (power), E9 VCC (power), E10 VCC (power), E11 MODE (in), F1 VCC (power), F2 IO (io), F3 IO (io), F9 CLK/IO (io), F10 GND (power), F11 IO (io), G1 IO (io), G2 VCC (power), G3 IO (io), G9 IO (io), G10 GND (power), G11 IO (io), H1 IO (io), H2 IO (io), H10 IO (io), H11 IO (io), J1 IO (io), J2 IO (io), J5 IO (io), J6 IO (io), J7 IO (io), J10 IO (io), J11 IO (io), K1 IO (io), K2 VCC (power), K3 IO (io), K4 IO (io), K5 GND (power), K6 IO (io), K7 VCC (power), K8 IO (io), K9 IO (io), K10 IO (io), K11 IO (io), L1 IO (io), L2 IO (io), L3 IO (io), L4 IO (io), L5 IO (io), L6 IO (io), L7 IO (io), L8 IO (io), L9 IO (io), L10 IO (io), L11 IO (io)

## A1020B-1PG84C
designator U?
ACT 1 Series 5V FPGA, 69 User I/Os, 84 pin CPGA, Speed Grade 1, Commercial Grade; Published: 24-Nov-2000; LatestRevisionDate: 04-Mar-2005; LatestRevisionNote: Stylized 3D Model Added.; DatasheetVersion: v3.0, Jan-2000; PackageVersion: ver11.2, Nov-2009; PackageReference: PG84; Publisher: Altium Limited; PackageDescription: 84-Pin Ceramic Pin Grid Array (PG84); ComponentLink1Description: HiRel ACT 1 DataSheet; ComponentLink1URL: http://www.actel.com/documents/HiRel_DS.pdf; ComponentLink2Description: Package Mechanical Drawings; ComponentLink2URL: http://www.actel.com/documents/PckgMechDrwngs.pdf; ComponentLink3Description: ACT Documents; ComponentLink3URL: http://www.actel.com/products/legacy/default.aspx#docs; ComponentLink4Description: Actel.com Home; ComponentLink4URL: http://www.actel.com/
footprint PG84 (PGA, 85-Leads, Body 28x28mm, Pitch 2.54mm)
pins: A1 IO (io), A2 IO (io), A3 IO (io), A4 IO (io), A5 IO (io), A6 IO (io), A7 IO (io), A8 IO (io), A9 IO (io), A10 IO (io), A11 PRA/IO (io), B1 IO (io), B2 NC, B3 IO (io), B4 IO (io), B5 VCC (power), B6 IO (io), B7 GND (power), B8 IO (io), B9 IO (io), B10 PRB/IO (io), B11 SDI,IO (io), C1 IO (io), C2 IO (io), C3 NC, C5 IO (io), C6 IO (io), C7 IO (io), C10 DCLK/IO (io), C11 IO (io), D1 IO (io), D2 IO (io), D10 IO (io), D11 IO (io), E1 IO (io), E2 GND (power), E3 GND (power), E9 VCC (power), E10 VCC (power), E11 MODE (in), F1 VCC (power), F2 IO (io), F3 IO (io), F9 CLK/IO (io), F10 GND (power), F11 IO (io), G1 IO (io), G2 VCC (power), G3 IO (io), G9 IO (io), G10 GND (power), G11 IO (io), H1 IO (io), H2 IO (io), H10 IO (io), H11 IO (io), J1 IO (io), J2 IO (io), J5 IO (io), J6 IO (io), J7 IO (io), J10 IO (io), J11 IO (io), K1 IO (io), K2 VCC (power), K3 IO (io), K4 IO (io), K5 GND (power), K6 IO (io), K7 VCC (power), K8 IO (io), K9 IO (io), K10 IO (io), K11 IO (io), L1 IO (io), L2 IO (io), L3 IO (io), L4 IO (io), L5 IO (io), L6 IO (io), L7 IO (io), L8 IO (io), L9 IO (io), L10 IO (io), L11 IO (io)

## A1020B-1PG84I
designator U?
ACT 1 Series 5V FPGA, 69 User I/Os, 84 pin CPGA, Speed Grade 1, Industrial Grade; ComponentAvailability: Unknown, check status with vendor.; Published: 24-Nov-2000; LatestRevisionDate: 04-Mar-2005; LatestRevisionNote: Stylized 3D Model Added.; DatasheetVersion: 1991; PackageVersion: ver11.2, Nov-2009; PackageReference: PG84; Publisher: Altium Limited; PackageDescription: 84-Pin Ceramic Pin Grid Array (PG84); ComponentLink1Description: Package Mechanical Drawings; ComponentLink1URL: http://www.actel.com/documents/PckgMechDrwngs.pdf; ComponentLink2Description: ACT Documents; ComponentLink2URL: http://www.actel.com/products/legacy/default.aspx#docs; ComponentLink3Description: Actel.com Home; ComponentLink3URL: http://www.actel.com/
footprint PG84 (PGA, 85-Leads, Body 28x28mm, Pitch 2.54mm)
pins: A1 IO (io), A2 IO (io), A3 IO (io), A4 IO (io), A5 IO (io), A6 IO (io), A7 IO (io), A8 IO (io), A9 IO (io), A10 IO (io), A11 ~{PRA} (out), B1 IO (io), B2 NC, B3 IO (io), B4 IO (io), B5 VCC (power), B6 IO (io), B7 GND (power), B8 IO (io), B9 IO (io), B10 ~{PRB} (out), B11 SDI (in), C1 IO (io), C2 IO (io), C5 IO (io), C6 IO (io), C7 IO (io), C10 DCLK (in), C11 IO (io), D1 IO (io), D2 IO (io), D10 IO (io), D11 IO (io), E1 IO (io), E2 GND (power), E3 GND (power), E9 VCC (power), E10 VCC (power), E11 MODE (in), F1 VCC (power), F2 IO (io), F3 IO (io), F9 CLK/IO (io), F10 GND (power), F11 IO (io), G1 IO (io), G2 VCC (power), G3 IO (io), G9 IO (io), G10 GND (power), G11 IO (io), H1 IO (io), H2 IO (io), H10 IO (io), H11 IO (io), J1 IO (io), J2 IO (io), J5 IO (io), J6 IO (io), J7 IO (io), J10 IO (io), J11 IO (io), K1 IO (io), K2 VPP (power), K3 IO (io), K4 IO (io), K5 GND (power), K6 IO (io), K7 VCC (power), K8 IO (io), K9 IO (io), K10 IO (io), K11 IO (io), L1 IO (io), L2 IO (io), L3 IO (io), L4 IO (io), L5 IO (io), L6 IO (io), L7 IO (io), L8 IO (io), L9 IO (io), L10 IO (io), L11 IO (io)

## A1020B-1PG84M
designator U?
ACT 1 Series 5V FPGA, 69 User I/Os, 84 pin CPGA, Speed Grade 1, Military Grade; Published: 24-Nov-2000; LatestRevisionDate: 04-Mar-2005; LatestRevisionNote: Stylized 3D Model Added.; DatasheetVersion: v3.0, Jan-2000; PackageVersion: ver11.2, Nov-2009; PackageReference: PG84; Publisher: Altium Limited; PackageDescription: 84-Pin Ceramic Pin Grid Array (PG84); ComponentLink1Description: HiRel ACT 1 DataSheet; ComponentLink1URL: http://www.actel.com/documents/HiRel_DS.pdf; ComponentLink2Description: Package Mechanical Drawings; ComponentLink2URL: http://www.actel.com/documents/PckgMechDrwngs.pdf; ComponentLink3Description: ACT Documents; ComponentLink3URL: http://www.actel.com/products/legacy/default.aspx#docs; ComponentLink4Description: Actel.com Home; ComponentLink4URL: http://www.actel.com/
footprint PG84 (PGA, 85-Leads, Body 28x28mm, Pitch 2.54mm)
pins: A1 IO (io), A2 IO (io), A3 IO (io), A4 IO (io), A5 IO (io), A6 IO (io), A7 IO (io), A8 IO (io), A9 IO (io), A10 IO (io), A11 PRA/IO (io), B1 IO (io), B2 NC, B3 IO (io), B4 IO (io), B5 VCC (power), B6 IO (io), B7 GND (power), B8 IO (io), B9 IO (io), B10 PRB/IO (io), B11 SDI,IO (io), C1 IO (io), C2 IO (io), C3 NC, C5 IO (io), C6 IO (io), C7 IO (io), C10 DCLK/IO (io), C11 IO (io), D1 IO (io), D2 IO (io), D10 IO (io), D11 IO (io), E1 IO (io), E2 GND (power), E3 GND (power), E9 VCC (power), E10 VCC (power), E11 MODE (in), F1 VCC (power), F2 IO (io), F3 IO (io), F9 CLK/IO (io), F10 GND (power), F11 IO (io), G1 IO (io), G2 VCC (power), G3 IO (io), G9 IO (io), G10 GND (power), G11 IO (io), H1 IO (io), H2 IO (io), H10 IO (io), H11 IO (io), J1 IO (io), J2 IO (io), J5 IO (io), J6 IO (io), J7 IO (io), J10 IO (io), J11 IO (io), K1 IO (io), K2 VCC (power), K3 IO (io), K4 IO (io), K5 GND (power), K6 IO (io), K7 VCC (power), K8 IO (io), K9 IO (io), K10 IO (io), K11 IO (io), L1 IO (io), L2 IO (io), L3 IO (io), L4 IO (io), L5 IO (io), L6 IO (io), L7 IO (io), L8 IO (io), L9 IO (io), L10 IO (io), L11 IO (io)

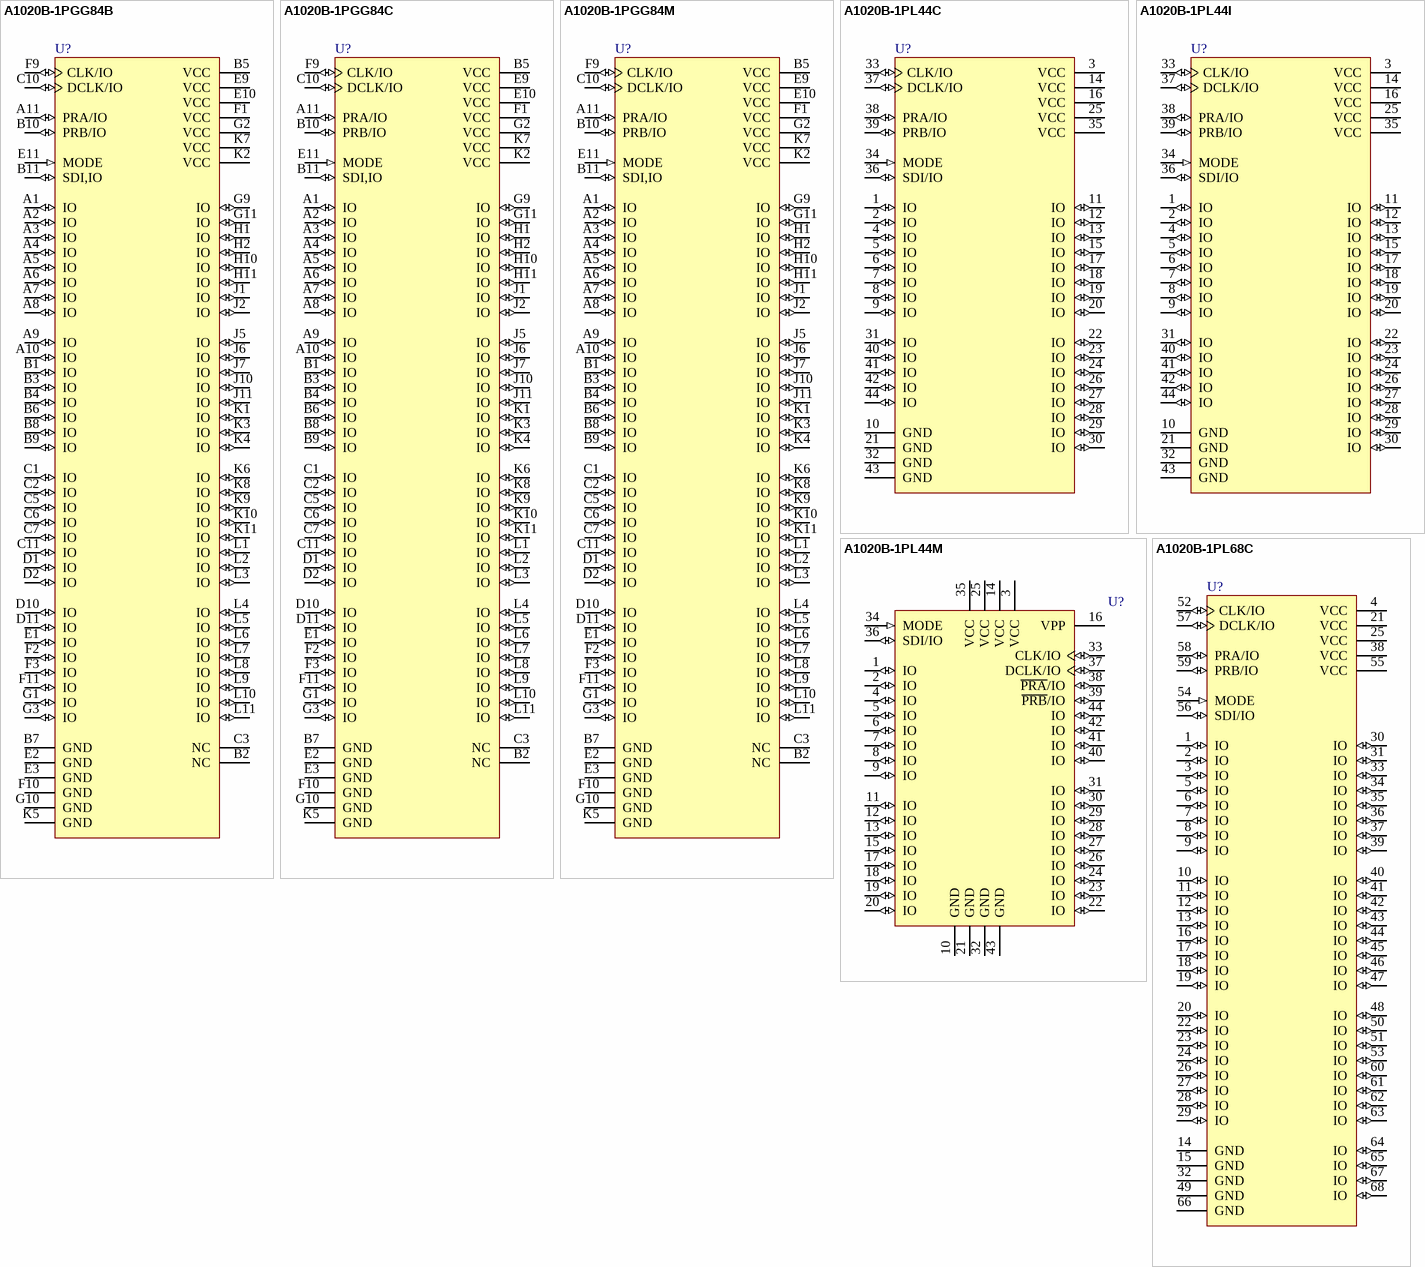
[diagram p15: symbols A1020B-1PGG84B to A1020B-1PL68C]